# Altium schematic symbol library Graphic.SchLib: 30 symbols
Pins are listed as number, name and electrical type; pins without a type are passive.

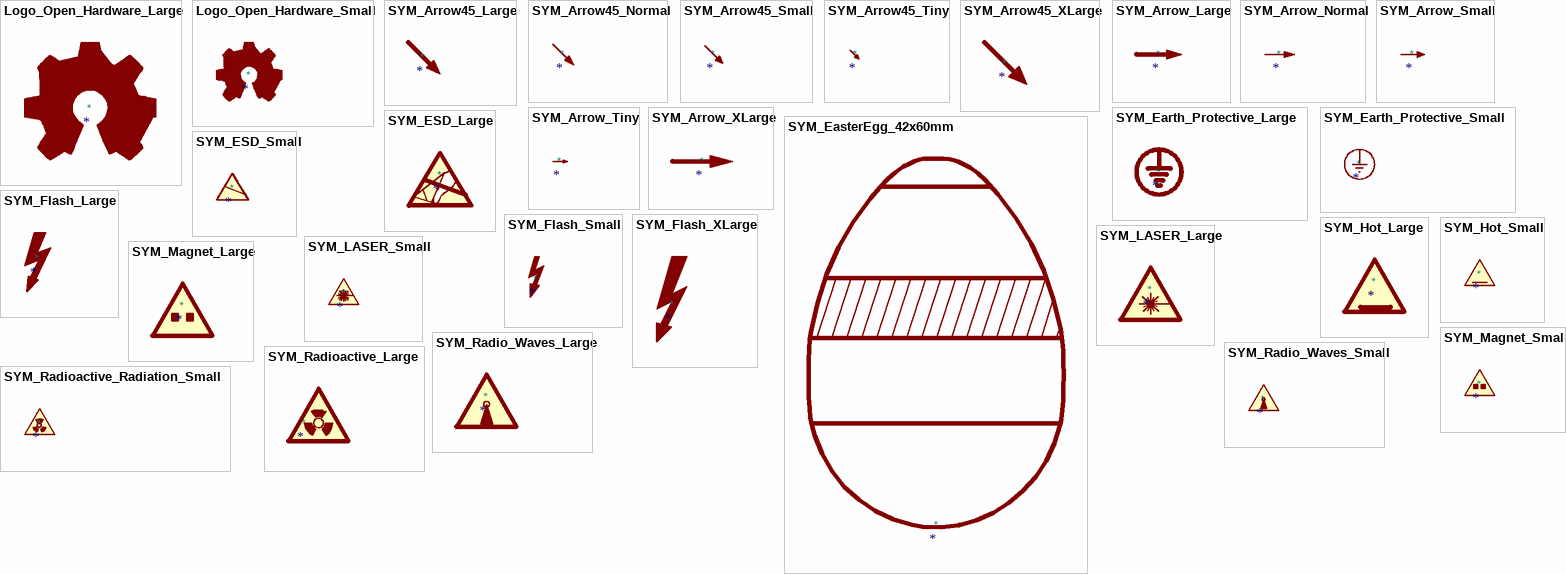
[diagram p0: symbols Logo_Open_Hardware_Large to SYM_Radioactive_Radiation_Small]

## Logo_Open_Hardware_Large
designator *
Open Hardware logo, large; Value: Logo_Open_Hardware_Large; Reference: #SYM; Sim.Enable: 0; Datasheet: ~; Description_: Open Hardware logo, large; ki_keywords: Logo

## Logo_Open_Hardware_Small
designator *
Open Hardware logo, small; Value: Logo_Open_Hardware_Small; Reference: #SYM; Sim.Enable: 0; Datasheet: ~; Description_: Open Hardware logo, small; ki_keywords: Logo

## SYM_Arrow45_Large
designator *
Filled 45° arrow, 300mil; Value: SYM_Arrow45_Large; Reference: #SYM; Sim.Enable: 0; ki_keywords: symbol arrow angled 45°; Datasheet: ~; Description_: Filled 45° arrow, 300mil

## SYM_Arrow45_Normal
designator *
Filled 45° arrow, 200mil; Value: SYM_Arrow45_Normal; Reference: #SYM; Sim.Enable: 0; ki_keywords: symbol arrow angled 45°; Datasheet: ~; Description_: Filled 45° arrow, 200mil

## SYM_Arrow45_Small
designator *
Filled 45° arrow, 160mil; Value: SYM_Arrow45_Small; Reference: #SYM; Sim.Enable: 0; ki_keywords: symbol arrow angled 45°; Datasheet: ~; Description_: Filled 45° arrow, 160mil

## SYM_Arrow45_Tiny
designator *
Filled 45° arrow, 100mil; Value: SYM_Arrow45_Tiny; Reference: #SYM; Sim.Enable: 0; ki_keywords: symbol arrow angled 45°; Datasheet: ~; Description_: Filled 45° arrow, 100mil

## SYM_Arrow45_XLarge
designator *
Filled 45° arrow, 400mil; Value: SYM_Arrow45_XLarge; Reference: #SYM; Sim.Enable: 0; ki_keywords: symbol arrow 45° angled; Datasheet: ~; Description_: Filled 45° arrow, 400mil

## SYM_Arrow_Large
designator *
Filled arrow, 300mil; Value: SYM_Arrow_Large; Reference: #SYM; Sim.Enable: 0; ki_keywords: symbol arrow; Datasheet: ~; Description_: Filled arrow, 300mil

## SYM_Arrow_Normal
designator *
Filled arrow, 200mil; Value: SYM_Arrow_Normal; Reference: #SYM; Sim.Enable: 0; ki_keywords: symbol arrow; Datasheet: ~; Description_: Filled arrow, 200mil

## SYM_Arrow_Small
designator *
Filled arrow, 160mil; Value: SYM_Arrow_Small; Reference: #SYM; Sim.Enable: 0; ki_keywords: symbol arrow; Datasheet: ~; Description_: Filled arrow, 160mil

## SYM_Arrow_Tiny
designator *
Filled arrow, 100mil; Value: SYM_Arrow_Tiny; Reference: #SYM; Sim.Enable: 0; ki_keywords: symbol arrow; Datasheet: ~; Description_: Filled arrow, 100mil

## SYM_Arrow_XLarge
designator *
Filled arrow, 400mil; Value: SYM_Arrow_XLarge; Reference: #SYM; Sim.Enable: 0; ki_keywords: symbol arrow; Datasheet: ~; Description_: Filled arrow, 400mil

## SYM_Earth_Protective_Large
designator *
Protective earth symbol, large; Value: SYM_Earth_Protective_Large; Reference: #SYM; Sim.Enable: 0; ki_keywords: graphical symbol earth protective; Datasheet: ~; Description_: Protective earth symbol, large

## SYM_Earth_Protective_Small
designator *
Protective earth symbol, small; Value: SYM_Earth_Protective_Small; Reference: #SYM; Sim.Enable: 0; ki_keywords: graphical symbol earth protective; Datasheet: ~; Description_: Protective earth symbol, small

## SYM_EasterEgg_42x60mm
designator *
EasterEgg, ClassA, Medium Size; Value: SYM_EasterEgg_42x60mm; Reference: SYM; Sim.Enable: 0; ki_keywords: egg easter oval; ki_fp_filters: EasterEgg*; Footprint: Symbol:EasterEgg_EWG1308-2013_ClassA; Datasheet: https://eur-lex.europa.eu/LexUriServ/LexUriServ.do?uri=OJ:L:2013:347:0671:0854:de:PDF; Description_: EasterEgg, ClassA, Medium Size

## SYM_ESD_Large
designator *
ESD warning/"Do not touch" symbol, large; Value: SYM_ESD_Large; Reference: #SYM; Sim.Enable: 0; ki_keywords: symbol ESD; Datasheet: ~; Description_: ESD warning/"Do not touch" symbol, large

## SYM_ESD_Small
designator *
ESD warning/"Do not touch" symbol, small; Value: SYM_ESD_Small; Reference: #SYM; Sim.Enable: 0; ki_keywords: symbol ESD; Datasheet: ~; Description_: ESD warning/"Do not touch" symbol, small

## SYM_Flash_Large
designator *
Flash symbol, large; Value: SYM_Flash_Large; Reference: #SYM; Sim.Enable: 0; ki_keywords: graphic symbol flash VAC 220VAC 110VAC power; Datasheet: ~; Description_: Flash symbol, large

## SYM_Flash_Small
designator *
Flash symbol, small; Value: SYM_Flash_Small; Reference: #SYM; Sim.Enable: 0; ki_keywords: graphic symbol flash VAC 220VAC 110VAC power; Datasheet: ~; Description_: Flash symbol, small

## SYM_Flash_XLarge
designator *
Flash symbol, extra large; Value: SYM_Flash_XLarge; Reference: #SYM; Sim.Enable: 0; ki_keywords: graphic symbol flash VAC 220VAC 110VAC power; Datasheet: ~; Description_: Flash symbol, extra large

## SYM_Hot_Large
designator *
Hot surface warning symbol, large; Value: SYM_Hot_Large; Reference: #SYM; Sim.Enable: 0; ki_keywords: symbol logo hot surface warning heat; Datasheet: ~; Description_: Hot surface warning symbol, large

## SYM_Hot_Small
designator *
Hot surface warning symbol, small; Value: SYM_Hot_Small; Reference: #SYM; Sim.Enable: 0; ki_keywords: symbol logo hot surface warning heat; Datasheet: ~; Description_: Hot surface warning symbol, small

## SYM_LASER_Large
designator *
Laser radiation warning symbol, large; Value: SYM_LASER_Large; Reference: #SYM; Sim.Enable: 0; ki_keywords: symbol logo laser warning; Datasheet: ~; Description_: Laser radiation warning symbol, large

## SYM_LASER_Small
designator *
Laser radiation warning symbol, small; Value: SYM_LASER_Small; Reference: #SYM; Sim.Enable: 0; ki_keywords: symbol logo laser warning; Datasheet: ~; Description_: Laser radiation warning symbol, small

## SYM_Magnet_Large
designator *
Magnetic field warning symbol, large; Value: SYM_Magnet_Large; Reference: #SYM; Sim.Enable: 0; ki_keywords: symbol logo magnetic field warning; Datasheet: ~; Description_: Magnetic field warning symbol, large

## SYM_Magnet_Small
designator *
Magnetic field warning symbol, small; Value: SYM_Magnet_Small; Reference: #SYM; Sim.Enable: 0; ki_keywords: symbol logo magnetic field warning; Datasheet: ~; Description_: Magnetic field warning symbol, small

## SYM_Radio_Waves_Large
designator *
Radio waves warning symbol, large; Value: SYM_Radio_Waves_Large; Reference: #SYM; Sim.Enable: 0; ki_keywords: symbol logo radio waves warning radiation; Datasheet: ~; Description_: Radio waves warning symbol, large

## SYM_Radio_Waves_Small
designator *
Radio waves warning symbol, small; Value: SYM_Radio_Waves_Small; Reference: #SYM; Sim.Enable: 0; ki_keywords: symbol logo radio waves warning radiation; Datasheet: ~; Description_: Radio waves warning symbol, small

## SYM_Radioactive_Large
designator *
Radioactive/radiation warning symbol, large; Value: SYM_Radioactive_Large; Reference: #SYM; Sim.Enable: 0; ki_keywords: symbol logo radioactive radiation warning heat; Datasheet: ~; Description_: Radioactive/radiation warning symbol, large

## SYM_Radioactive_Radiation_Small
designator *
Radioactive/radiation warning symbol, small; Value: SYM_Radioactive_Radiation_Small; Reference: #SYM; Sim.Enable: 0; ki_keywords: symbol logo radioactive radiation warning; Datasheet: ~; Description_: Radioactive/radiation warning symbol, small